# Altium schematic symbol library RAK439.SchLib: 1 symbol
Pins are listed as number, name and electrical type; pins without a type are passive.

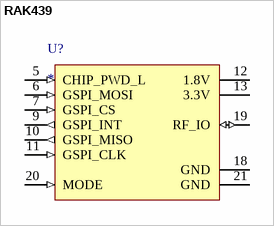
[diagram p0: symbol RAK439]

## RAK439
designator U?
footprint RAK439 (Footprint not found)
pins: 5 CHIP_PWD_L (in), 6 GSPI_MOSI (in), 7 GSPI_CS (in), 9 GSPI_INT (out), 10 GSPI_MISO (out), 11 GSPI_CLK (in), 12 1.8V (power), 13 3.3V (power), 18 GND (power), 19 RF_IO (io), 20 MODE (in), 21 GND (power)